# Altium footprint library SL_Leds.PcbLib: 4 footprints
Each footprint in its own frame and in the unit in brackets; x right, y up, seen from the top. Pads: shape width x height; smd on the part's side, far side on the other; paste and mask are expansions set on the pad; w line width, h text height; cw(c..) or ccw(c..) is an arc to the next point about the centre after c.
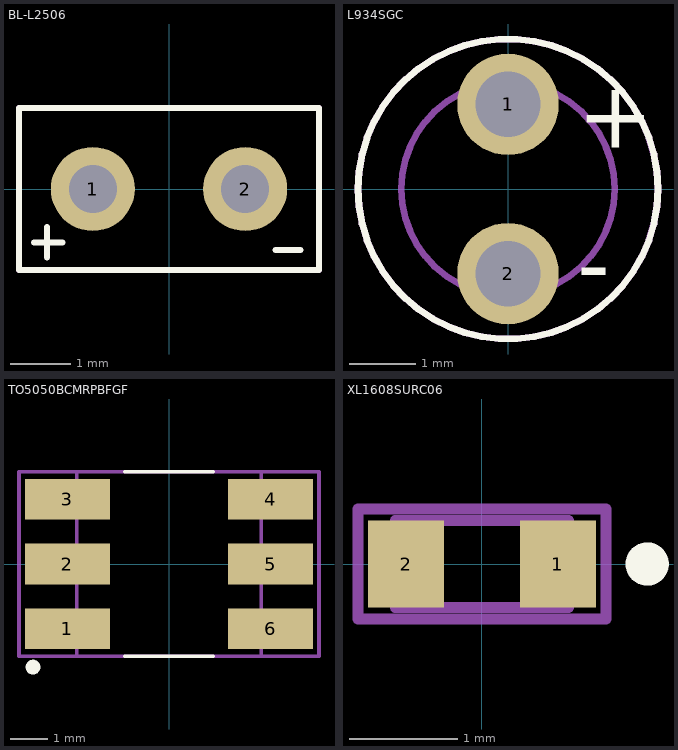
[diagram p0: the footprints below, top view; thin cyan lines are the x and y axes]

## BL-L2506 [mm]
pads (2):
  round 1.4 hole 0.8: 1(-1.27,0) 2(1.27,0)
Top Overlay:
  lines w0.1: -2.246,-0.889 -1.778,-0.889 ; -2.032,-1.143 -2.032,-0.635 ; 1.778,-1.016 2.192,-1.016 ; -2.5,-1.35 2.5,-1.35 2.5,1.35 -2.5,1.35 -2.5,-1.35
Mechanical 13:
  lines w0.1: -2.5,-1.35 -2.5,1.35 2.5,1.35 2.5,-1.35 -2.5,-1.35
Mechanical 15:
  lines w0.1: -2.5,-1.35 -2.5,1.35 2.5,1.35 2.5,-1.35 -2.5,-1.35
3D body "BL-L2506.STEP": height 10, standoff -3, extent -2.5,-1.35 2.5,1.35

## L934SGC [mm]
pads (2):
  round 1.521 hole 0.978: 1(0,1.27) 2(0,-1.27)
Top Overlay:
  circle w0.1: c0,0 r2.25
  text "-" at 1.039,-1.62 h1
  text "+" at 1.039,0.618 h1
Mechanical 13:
  lines w0.1: -1.6,0 cw(c0,0) 1.6,0 cw(c0,0) -1.6,0
Mechanical 15:
  circle w0.1: c0,0 r2.25
3D body "L-934SGC.stp": height 13.8, standoff -19, extent -1.588,-1.58 1.588,1.66

## TO5050BCMRPBFGF [mm]
pads (6):
  rect 2.3x1.1 smd: 1(-2.75,-1.75) 2(-2.75,0) 3(-2.75,1.75) 4(2.75,1.75) 5(2.75,0) 6(2.75,-1.75)
Top Overlay:
  circle w0.2: c-3.683,-2.794 r0.1
  lines w0.1: -1.2,-2.5 1.2,-2.5 ; -1.2,2.5 1.2,2.5
Mechanical 13:
  lines w0.1: -2.5,-2.5 2.5,-2.5 2.5,2.5 -2.5,2.5 -2.5,-2.5
Mechanical 15:
  lines w0.1: -4.064,-2.5 4.064,-2.5 4.064,2.5 -4.064,2.5 -4.064,-2.5
3D body "TO-5050BC-MRPBFGF.stp": height 2.2, standoff 0, extent -2.5,-2.5 2.5,2.5

## XL1608SURC06 [mm]
pads (2):
  rect 0.7x0.8 smd: 1(0.7,0) 2(-0.7,0)
Top Overlay:
  circle w0.2: c1.524,0 r0.1
Mechanical 13:
  lines w0.1: -0.8,-0.4 0.8,-0.4 0.8,0.4 -0.8,0.4 -0.8,-0.4
Mechanical 15:
  lines w0.1: -1.143,-0.508 1.143,-0.508 1.143,0.508 -1.143,0.508 -1.143,-0.508
3D body "XL-1608SURC-06.stp": height 0.95, standoff 0, extent -0.8,-0.4 0.8,0.4